# EAGLE library part FTE-115-DV (library con-samtec)
FTE-DV Pin Header
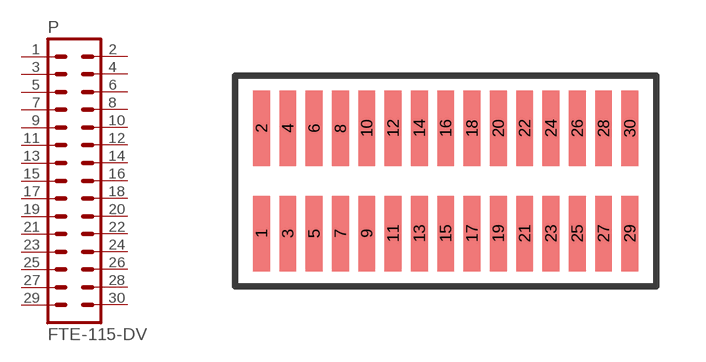
[diagram p5: symbol with the pads of FTE-115-DV; footprint FTE-115-DV]

Designator prefix P

## FTE-115-DV  [FTE-115-DV]
1  1  pas
2  2  pas
3  3  pas
4  4  pas
5  5  pas
6  6  pas
7  7  pas
8  8  pas
9  9  pas
10  10  pas
11  11  pas
12  12  pas
13  13  pas
14  14  pas
15  15  pas
16  16  pas
17  17  pas
18  18  pas
19  19  pas
20  20  pas
21  21  pas
22  22  pas
23  23  pas
24  24  pas
25  25  pas
26  26  pas
27  27  pas
28  28  pas
29  29  pas
30  30  pas

## Footprint FTE-115-DV (pad centres in mm)
FT-DV - Pin Header
smd 0.508 x 2.29: 1 -5.6,-1.6; 2 -5.6,1.6; 3 -4.8,-1.6; 4 -4.8,1.6; 5 -4,-1.6; 6 -4,1.6; 7 -3.2,-1.6; 8 -3.2,1.6; 9 -2.4,-1.6; 10 -2.4,1.6; 11 -1.6,-1.6; 12 -1.6,1.6; 13 -0.8,-1.6; 14 -0.8,1.6; 15 0,-1.6; 16 0,1.6; 17 0.8,-1.6; 18 0.8,1.6; 19 1.6,-1.6; 20 1.6,1.6; 21 2.4,-1.6; 22 2.4,1.6; 23 3.2,-1.6; 24 3.2,1.6; 25 4,-1.6; 26 4,1.6; 27 4.8,-1.6; 28 4.8,1.6; 29 5.6,-1.6; 30 5.6,1.6